# EAGLE library part ALLWINNER_V3S (library ALLWINNER_V3S)
Cost-efficient Video Encoding Processor Source: Datasheet <https://linux-sunxi.org/images/2/23/Allwinner_V3s_Datasheet_V1.0.pdf>
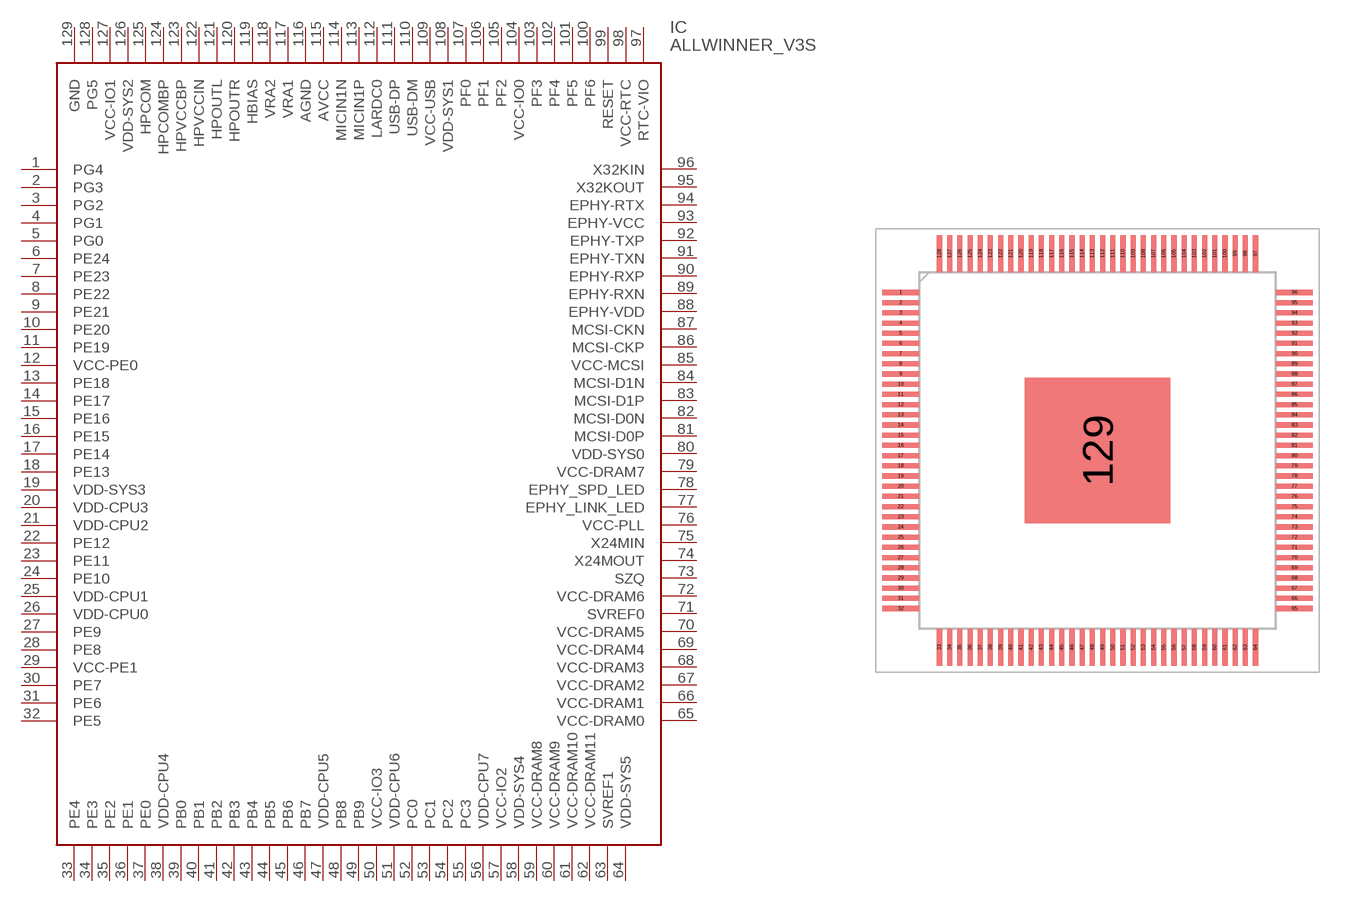
[diagram p0: symbol with the pads of QFP40P1600X1600X160-129N; footprint QFP40P1600X1600X160-129N]

Designator prefix IC

## ALLWINNER_V3S (Description: Cost-efficient Video Encoding Processor; Height: 1.6mm; Manufacturer_Name: Allwinner Technology; Manufacturer_Part_Number: ALLWINNER V3S)  [QFP40P1600X1600X160-129N]
1  PG4
2  PG3
3  PG2
4  PG1
5  PG0
6  PE24
7  PE23
8  PE22
9  PE21
10  PE20
11  PE19
12  VCC-PE0
13  PE18
14  PE17
15  PE16
16  PE15
17  PE14
18  PE13
19  VDD-SYS3
20  VDD-CPU3
21  VDD-CPU2
22  PE12
23  PE11
24  PE10
25  VDD-CPU1
26  VDD-CPU0
27  PE9
28  PE8
29  VCC-PE1
30  PE7
31  PE6
32  PE5
33  PE4
34  PE3
35  PE2
36  PE1
37  PE0
38  VDD-CPU4
39  PB0
40  PB1
41  PB2
42  PB3
43  PB4
44  PB5
45  PB6
46  PB7
47  VDD-CPU5
48  PB8
49  PB9
50  VCC-IO3
51  VDD-CPU6
52  PC0
53  PC1
54  PC2
55  PC3
56  VDD-CPU7
57  VCC-IO2
58  VDD-SYS4
59  VCC-DRAM8
60  VCC-DRAM9
61  VCC-DRAM10
62  VCC-DRAM11
63  SVREF1
64  VDD-SYS5
65  VCC-DRAM0
66  VCC-DRAM1
67  VCC-DRAM2
68  VCC-DRAM3
69  VCC-DRAM4
70  VCC-DRAM5
71  SVREF0
72  VCC-DRAM6
73  SZQ
74  X24MOUT
75  X24MIN
76  VCC-PLL
77  EPHY_LINK_LED
78  EPHY_SPD_LED
79  VCC-DRAM7
80  VDD-SYS0
81  MCSI-D0P
82  MCSI-D0N
83  MCSI-D1P
84  MCSI-D1N
85  VCC-MCSI
86  MCSI-CKP
87  MCSI-CKN
88  EPHY-VDD
89  EPHY-RXN
90  EPHY-RXP
91  EPHY-TXN
92  EPHY-TXP
93  EPHY-VCC
94  EPHY-RTX
95  X32KOUT
96  X32KIN
97  RTC-VIO
98  VCC-RTC
99  RESET
100  PF6
101  PF5
102  PF4
103  PF3
104  VCC-IO0
105  PF2
106  PF1
107  PF0
108  VDD-SYS1
109  VCC-USB
110  USB-DM
111  USB-DP
112  LARDC0
113  MICIN1P
114  MICIN1N
115  AVCC
116  AGND
117  VRA1
118  VRA2
119  HBIAS
120  HPOUTR
121  HPOUTL
122  HPVCCIN
123  HPVCCBP
124  HPCOMBP
125  HPCOM
126  VDD-SYS2
127  VCC-IO1
128  PG5
129  GND

## Footprint QFP40P1600X1600X160-129N (pad centres in mm)
ALLWINNER V3S
smd 1.45 x 0.2: 1 -7.725,6.2; 2 -7.725,5.8; 3 -7.725,5.4; 4 -7.725,5; 5 -7.725,4.6; 6 -7.725,4.2; 7 -7.725,3.8; 8 -7.725,3.4; 9 -7.725,3; 10 -7.725,2.6; 11 -7.725,2.2; 12 -7.725,1.8; 13 -7.725,1.4; 14 -7.725,1; 15 -7.725,0.6; 16 -7.725,0.2; 17 -7.725,-0.2; 18 -7.725,-0.6; 19 -7.725,-1; 20 -7.725,-1.4; 21 -7.725,-1.8; 22 -7.725,-2.2; 23 -7.725,-2.6; 24 -7.725,-3; 25 -7.725,-3.4; 26 -7.725,-3.8; 27 -7.725,-4.2; 28 -7.725,-4.6; 29 -7.725,-5; 30 -7.725,-5.4; 31 -7.725,-5.8; 32 -7.725,-6.2; 65 7.725,-6.2; 66 7.725,-5.8; 67 7.725,-5.4; 68 7.725,-5; 69 7.725,-4.6; 70 7.725,-4.2; 71 7.725,-3.8; 72 7.725,-3.4; 73 7.725,-3; 74 7.725,-2.6; 75 7.725,-2.2; 76 7.725,-1.8; 77 7.725,-1.4; 78 7.725,-1; 79 7.725,-0.6; 80 7.725,-0.2; 81 7.725,0.2; 82 7.725,0.6; 83 7.725,1; 84 7.725,1.4; 85 7.725,1.8; 86 7.725,2.2; 87 7.725,2.6; 88 7.725,3; 89 7.725,3.4; 90 7.725,3.8; 91 7.725,4.2; 92 7.725,4.6; 93 7.725,5; 94 7.725,5.4; 95 7.725,5.8; 96 7.725,6.2
smd 0.2 x 1.45: 33 -6.2,-7.725; 34 -5.8,-7.725; 35 -5.4,-7.725; 36 -5,-7.725; 37 -4.6,-7.725; 38 -4.2,-7.725; 39 -3.8,-7.725; 40 -3.4,-7.725; 41 -3,-7.725; 42 -2.6,-7.725; 43 -2.2,-7.725; 44 -1.8,-7.725; 45 -1.4,-7.725; 46 -1,-7.725; 47 -0.6,-7.725; 48 -0.2,-7.725; 49 0.2,-7.725; 50 0.6,-7.725; 51 1,-7.725; 52 1.4,-7.725; 53 1.8,-7.725; 54 2.2,-7.725; 55 2.6,-7.725; 56 3,-7.725; 57 3.4,-7.725; 58 3.8,-7.725; 59 4.2,-7.725; 60 4.6,-7.725; 61 5,-7.725; 62 5.4,-7.725; 63 5.8,-7.725; 64 6.2,-7.725; 97 6.2,7.725; 98 5.8,7.725; 99 5.4,7.725; 100 5,7.725; 101 4.6,7.725; 102 4.2,7.725; 103 3.8,7.725; 104 3.4,7.725; 105 3,7.725; 106 2.6,7.725; 107 2.2,7.725; 108 1.8,7.725; 109 1.4,7.725; 110 1,7.725; 111 0.6,7.725; 112 0.2,7.725; 113 -0.2,7.725; 114 -0.6,7.725; 115 -1,7.725; 116 -1.4,7.725; 117 -1.8,7.725; 118 -2.2,7.725; 119 -2.6,7.725; 120 -3,7.725; 121 -3.4,7.725; 122 -3.8,7.725; 123 -4.2,7.725; 124 -4.6,7.725; 125 -5,7.725; 126 -5.4,7.725; 127 -5.8,7.725; 128 -6.2,7.725
smd 5.72 x 5.72: 129 0,0